# EAGLE library part 7478-06 (library con-amp-mta)
HEADER KK 7478 Series
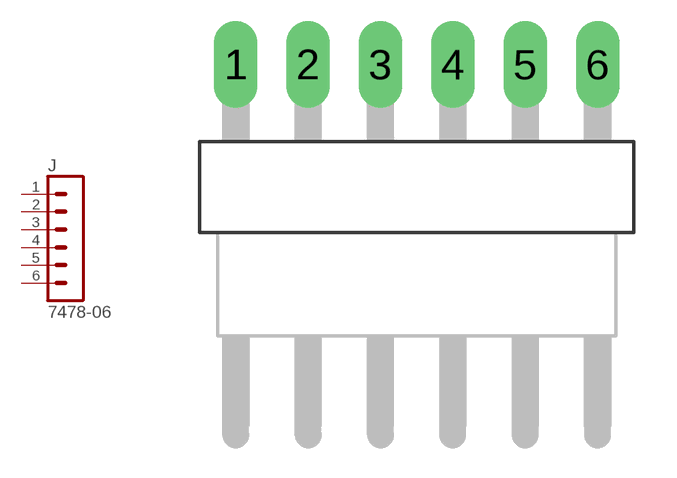
[diagram p0: symbol with the pads of 7478-06; footprint 7478-06]

Designator prefix J

## 7478-06  [7478-06]
1  1  pas
2  2  pas
3  3  pas
4  4  pas
5  5  pas
6  6  pas

## Footprint 7478-06 (pad centres in mm)
HEADER
drill 1.016 long: 1 -6.35,0; 2 -3.81,0; 3 -1.27,0; 4 1.27,0; 5 3.81,0; 6 6.35,0